# Altium footprint library pcbComponent.PCBLIB: 67 footprints (part 2 of 5)
Each footprint in its own frame and in the unit in brackets; x right, y up, seen from the top. Pads: shape width x height; smd on the part's side, far side on the other; paste and mask are expansions set on the pad; w line width, h text height; cw(c..) or ccw(c..) is an arc to the next point about the centre after c.
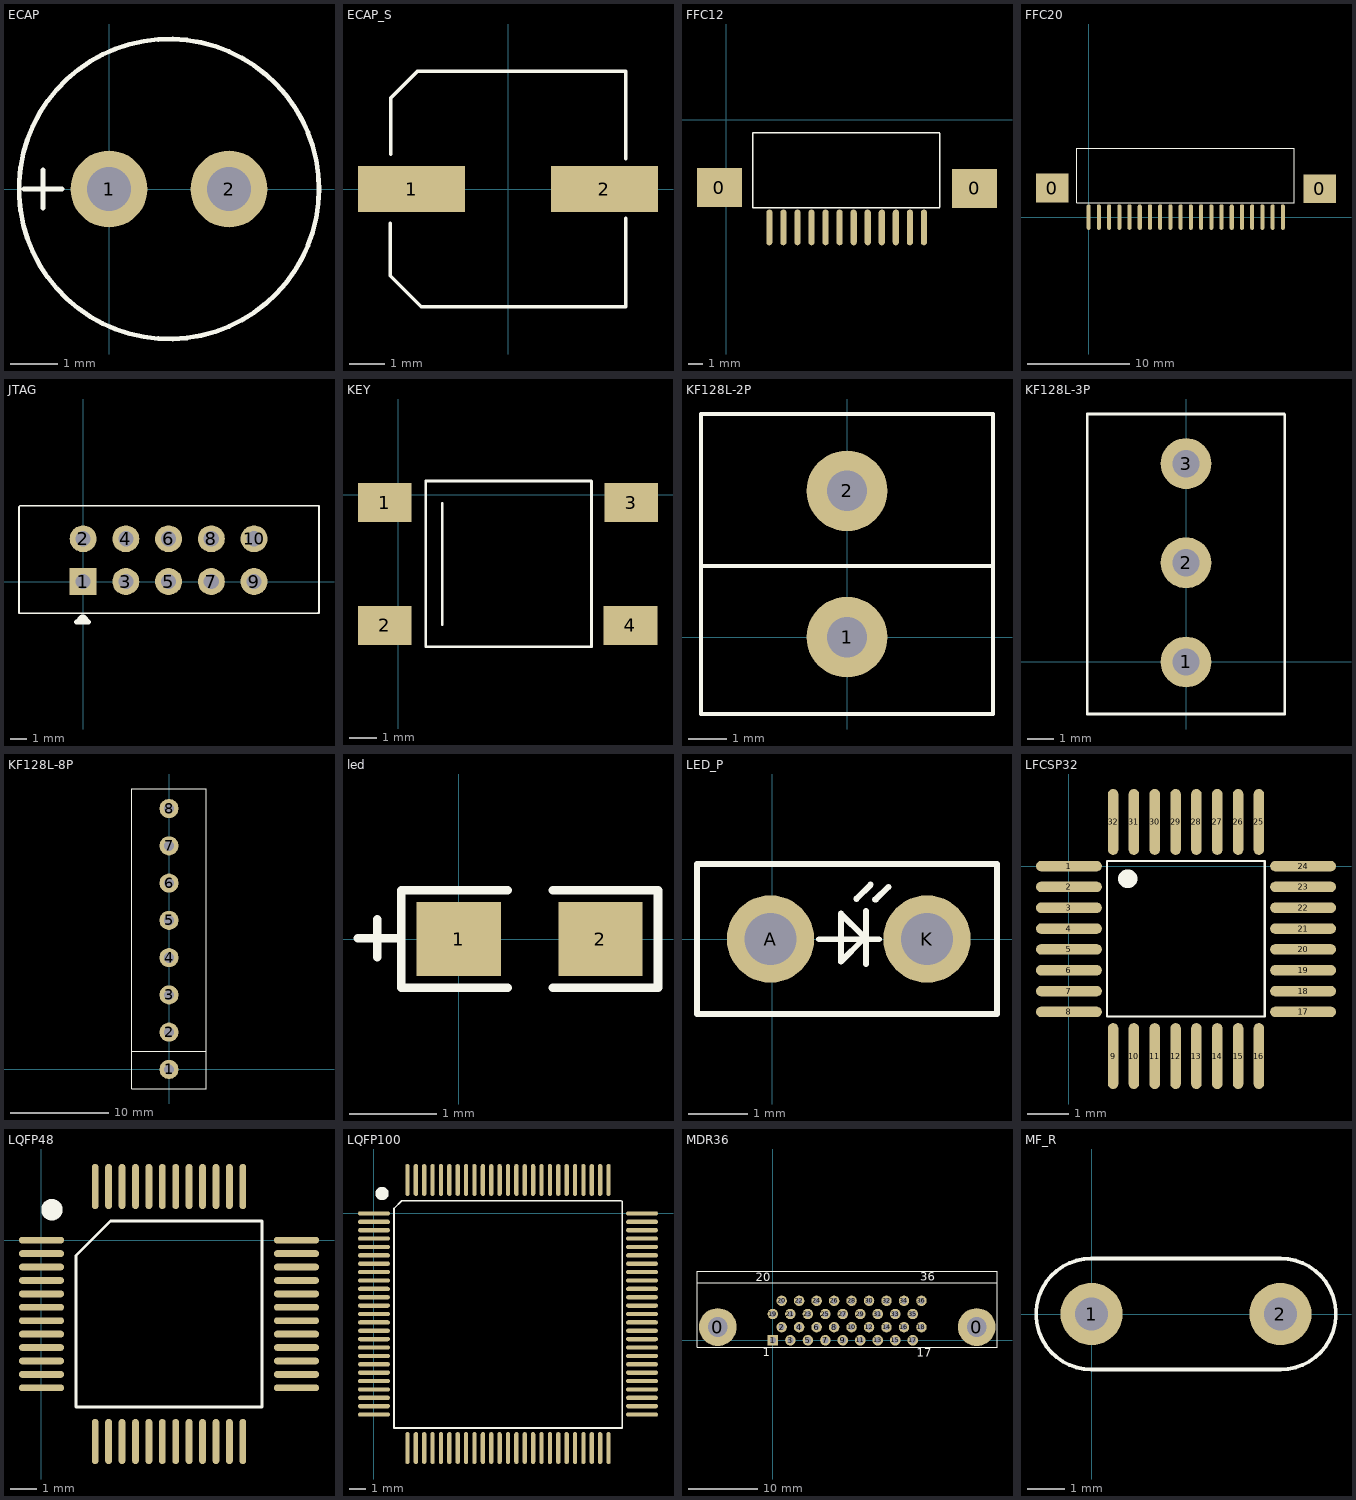
[diagram p1: the footprints below, top view; thin cyan lines are the x and y axes]

## ECAP [mil]
pads (2):
  round 64 hole 36.4: 1(0,0) 2(100,0)
TopOverlay:
  circle w3.94: c50,0 r125
  lines w3.94: -71,0 -39,0 ; -55,-16 -55,16

## ECAP_S [mm]
pads (2):
  rect 3x1.3 smd: 1(-2.7,0) 2(2.7,0)
TopOverlay:
  lines w0.102: -3.3,-0.955 -3.3,-2.4 -3.3,-2.43 -2.43,-3.3 3.3,-3.3 3.3,-0.82 ; -3.285,0.98 -3.285,2.29 -3.285,2.365 -3.285,2.55 -2.535,3.3 -2.43,3.3 3.3,3.3 3.3,0.845 ; -2.295,3.3 -2.025,3.3

## FFC12 [mm]
pads (14):
  rect 3.2x2.8 smd: 0(-0.475,-4.835) 0(17.675,-4.9)
  oval 0.44x2.54 smd: 1(3.075,-7.675) 2(4.075,-7.675) 3(5.075,-7.675) 4(6.075,-7.675) 5(7.075,-7.675) 6(8.075,-7.675) 7(9.075,-7.675) 8(10.075,-7.675) 9(11.075,-7.675) 10(12.075,-7.675) 11(13.075,-7.675) 12(14.075,-7.675)
TopOverlay:
  lines w0.1: 15.2,-6.285 1.907,-6.285 1.907,-0.935 15.2,-0.935 ; 15.2,-6.255 15.2,-0.956

## FFC20 [mm]
pads (22):
  rect 3.2x2.8 smd: 0(-3.55,2.84) 0(22.6,2.775)
  oval 0.4x2.5 smd: 1(0,0) 2(1,0) 3(2,0) 4(3,0) 5(4,0) 6(5,0) 7(6,0) 8(7,0) 9(8,0) 10(9,0) 11(10,0) 12(11,0) 13(12,0) 14(13,0) 15(14,0) 16(15,0) 17(16,0) 18(17,0) 19(18,0) 20(19,0)
TopOverlay:
  lines w0.1: 8.797,1.39 20.106,1.39 ; 10.141,1.39 -1.168,1.39 -1.168,6.74 20.09,6.74 ; 20.125,1.42 20.125,6.719

## JTAG [mm]
pads (10):
  rect 1.6x1.6 hole 0.9: 1(0,0)
  round 1.6 hole 0.9: 2(0,2.54) 3(2.54,0) 4(2.54,2.54) 5(5.08,0) 6(5.08,2.54) 7(7.62,0) 8(7.62,2.54) 9(10.16,0) 10(10.16,2.54)
TopOverlay:
  lines w0.1: -3.81,4.445 -3.81,2.819 -3.81,0.051 -3.81,-1.88 14.021,-1.88 ; -3.759,4.496 13.894,4.496 14.021,4.496 14.021,4.369 14.021,1.676 14.021,0 14.021,-1.88 ; -0.076,-2.108 0.025,-2.108 ; 13.97,-1.829 14.021,-1.88
  lines w0.3: -0.076,-2.108 -0.381,-2.413 0.33,-2.413 0.025,-2.108

## KEY [mm]
pads (4):
  rect 1.94x1.4 smd: 1(-0.483,-0.279) 2(-0.483,-4.724) 3(8.433,-0.279) 4(8.407,-4.724)
TopOverlay:
  lines w0.1: 1.6,-4.7 1.6,-0.3 ; 0.996,-5.5 0.996,0.5 6.996,0.5 6.996,-5.5 0.996,-5.5

## KF128L-2P [mm]
pads (2):
  round 2.1 hole 1.05: 1(0,0) 2(0,3.81)
TopOverlay:
  lines w0.102: -3.8,1.855 3.75,1.855 ; -3.8,-2 3.8,-2 3.8,5.81 -3.8,5.81 -3.8,-2

## KF128L-3P [mm]
pads (3):
  round 1.95 hole 1.05: 1(0,0) 2(0,3.81) 3(0,7.62)
TopOverlay:
  lines w0.1: -3.8,-2 -3.8,9.525 3.775,9.525 ; 3.8,-2 3.8,9.5
  lines w0.102: -3.8,-2 3.8,-2

## KF128L-8P [mm]
pads (8):
  round 1.95 hole 1.05: 1(0,0) 2(0,3.81) 3(0,7.62) 4(0,11.43) 5(0,15.24) 6(0,19.05) 7(0,22.86) 8(0,26.67)
TopOverlay:
  lines w0.102: -3.8,1.855 3.75,1.855 ; -3.8,-2 -3.8,28.67 3.8,28.67 3.8,-2 -3.8,-2

## led [mm]
pads (2):
  rect 0.965x0.85 smd: 1(0,0) 2(1.626,0)
TopOverlay:
  lines w0.1: -1.155,0.01 -0.66,0.01 ; -0.935,-0.21 -0.935,0.225 ; 0.559,-0.559 -0.66,-0.559 -0.66,0.559 0.559,0.559 ; 1.082,-0.559 2.286,-0.559 2.286,0.559 1.082,0.559

## LED_P [mm]
pads (2):
  round 1.48 hole 0.88: A(-0.025,0) K(2.625,0)
TopOverlay:
  lines w0.1: 0.794,-0.005 1.81,-0.005 ; 1.165,-0.385 1.165,0.415 ; -1.27,-1.27 0,-1.27 2.54,-1.27 3.81,-1.27 3.81,1.27 2.54,1.27 0,1.27 -1.27,1.27 -1.27,-1.27
  lines w0.102: 1.165,-0.385 1.55,0 ; 1.165,0.43 1.55,0.045 ; 1.435,0.675 1.435,0.685 1.67,0.92 ; 1.59,-0.425 1.59,0.47 ; 1.74,0.67 1.76,0.67 1.97,0.88

## LFCSP32 [mm]
pads (32):
  oval 1.58x0.254 smd: 1(0,0) 2(0,-0.5) 3(0,-1) 4(0,-1.5) 5(0,-2) 6(0,-2.5) 7(0,-3) 8(0,-3.5) 17(5.62,-3.5) 18(5.62,-3) 19(5.62,-2.5) 20(5.62,-2) 21(5.62,-1.5) 22(5.62,-1) 23(5.62,-0.5) 24(5.62,0)
  oval 0.254x1.58 smd: 9(1.06,-4.56) 10(1.56,-4.56) 11(2.06,-4.56) 12(2.56,-4.56) 13(3.06,-4.56) 14(3.56,-4.56) 15(4.06,-4.56) 16(4.56,-4.56) 25(4.56,1.06) 26(4.06,1.06) 27(3.56,1.06) 28(3.06,1.06) 29(2.56,1.06) 30(2.06,1.06) 31(1.56,1.06) 32(1.06,1.06)
TopOverlay:
  lines w0.05: 0.914,-3.607 4.699,-3.607 4.699,0.127 0.914,0.127 0.914,-3.607
  lines w0.44: 1.4,-0.3 1.425,-0.3

## LQFP48 [mil]
pads (48):
  oval 66x10 smd: 1(0,0) 2(0,-19.68) 3(0,-39.37) 4(0,-59.05) 5(0,-78.74) 6(0,-98.42) 7(0,-118.11) 8(0,-137.79) 9(0,-157.48) 10(0,-177.16) 11(0,-196.85) 12(0,-216.53) 25(374.01,-216.53) 26(374.01,-196.85) 27(374.01,-177.16) 28(374.01,-157.48) 29(374.01,-137.79) 30(374.01,-118.11) 31(374.01,-98.42) 32(374.01,-78.74) 33(374.01,-59.05) 34(374.01,-39.37) 35(374.01,-19.68) 36(374.01,0)
  oval 10x66 smd: 13(78.74,-295.27) 14(98.42,-295.27) 15(118.11,-295.27) 16(137.79,-295.27) 17(157.48,-295.27) 18(177.16,-295.27) 19(196.85,-295.27) 20(216.53,-295.27) 21(236.22,-295.27) 22(255.91,-295.27) 23(275.59,-295.27) 24(295.27,-295.27) 37(295.27,78.74) 38(275.59,78.74) 39(255.91,78.74) 40(236.22,78.74) 41(216.53,78.74) 42(196.85,78.74) 43(177.16,78.74) 44(157.48,78.74) 45(137.79,78.74) 46(118.11,78.74) 47(98.42,78.74) 48(78.74,78.74)
TopOverlay:
  circle w15.75: c15.35,44.69 r7.87
  lines w4: 50.59,-244.69 50.59,-22.44 101.18,28.15 323.43,28.15 323.43,-244.69 50.59,-244.69

## LQFP100 [mil]
pads (100):
  oval 75x10 smd: 1(0,0) 2(0,-19.68) 3(0,-39.37) 4(0,-59.05) 5(0,-78.74) 6(0,-98.42) 7(0,-118.11) 8(0,-137.79) 9(0,-157.48) 10(0,-177.16) 11(0,-196.85) 12(0,-216.53) 13(0,-236.22) 14(0,-255.91) 15(0,-275.59) 16(0,-295.27) 17(0,-314.96) 18(0,-334.64) 19(0,-354.33) 20(0,-374.01) 21(0,-393.7) 22(0,-413.38) 23(0,-433.07) 24(0,-452.76) 25(0,-472.44) 51(629.92,-472.44) 52(629.92,-452.76) 53(629.92,-433.07) 54(629.92,-413.38) 55(629.92,-393.7) 56(629.92,-374.01) 57(629.92,-354.33) 58(629.92,-334.64) 59(629.92,-314.96) 60(629.92,-295.27) 61(629.92,-275.59) 62(629.92,-255.91) 63(629.92,-236.22) 64(629.92,-216.53) 65(629.92,-196.85) 66(629.92,-177.16) 67(629.92,-157.48) 68(629.92,-137.79) 69(629.92,-118.11) 70(629.92,-98.42) 71(629.92,-78.74) 72(629.92,-59.05) 73(629.92,-39.37) 74(629.92,-19.68) 75(629.92,0)
  oval 10x75 smd: 26(78.74,-551.18) 27(98.42,-551.18) 28(118.11,-551.18) 29(137.79,-551.18) 30(157.48,-551.18) 31(177.16,-551.18) 32(196.85,-551.18) 33(216.53,-551.18) 34(236.22,-551.18) 35(255.91,-551.18) 36(275.59,-551.18) 37(295.27,-551.18) 38(314.96,-551.18) 39(334.64,-551.18) 40(354.33,-551.18) 41(374.01,-551.18) 42(393.7,-551.18) 43(413.38,-551.18) 44(433.07,-551.18) 45(452.75,-551.18) 46(472.44,-551.18) 47(492.12,-551.18) 48(511.81,-551.18) 49(531.5,-551.18) 50(551.18,-551.18) 76(551.18,78.74) 77(531.5,78.74) 78(511.81,78.74) 79(492.12,78.74) 80(472.44,78.74) 81(452.75,78.74) 82(433.07,78.74) 83(413.38,78.74) 84(393.7,78.74) 85(374.01,78.74) 86(354.33,78.74) 87(334.64,78.74) 88(314.96,78.74) 89(295.27,78.74) 90(275.59,78.74) 91(255.91,78.74) 92(236.22,78.74) 93(216.53,78.74) 94(196.85,78.74) 95(177.16,78.74) 96(157.48,78.74) 97(137.79,78.74) 98(118.11,78.74) 99(98.42,78.74) 100(78.74,78.74)
TopOverlay:
  circle w15.75: c18.9,46.85 r7.87
  lines w4: 47.24,-504.13 47.24,11.61 47.24,11.81 65.55,30.12 581.3,30.12 ; 47.24,-503.94 582.68,-503.94 ; 583.07,-503.35 583.07,12.4 583.07,28.35

## MDR36 [mm]
pads (38):
  round 5.5 hole 2.88: 0(-8.001,1.905) 0(29.616,1.905)
  rect 1.52x1.52 hole 0.88: 1(0,0)
  round 1.52 hole 0.88: 2(1.27,1.905) 3(2.54,0) 4(3.81,1.905) 5(5.08,0) 6(6.35,1.905) 7(7.62,0) 8(8.89,1.905) 9(10.16,0) 10(11.43,1.905) 11(12.7,0) 12(13.97,1.905) 13(15.24,0) 14(16.51,1.905) 15(17.78,0) 16(19.05,1.905) 17(20.32,0) 18(21.59,1.905) 19(0,3.81) 20(1.27,5.715) 21(2.54,3.81) 22(3.81,5.715) 23(5.08,3.81) 24(6.35,5.715) 25(7.62,3.81) 26(8.89,5.715) 27(10.16,3.81) 28(11.43,5.715) 29(12.7,3.81) 30(13.97,5.715) 31(15.24,3.81) 32(16.51,5.715) 33(17.78,3.81) 34(19.05,5.715) 35(20.32,3.81) 36(21.59,5.715)
TopOverlay:
  lines w0.1: -11.024,8.331 32.461,8.331 ; -11.024,-1.016 32.563,-1.016 32.563,10.008 -11.024,10.008 -11.024,6.858 -11.024,2.032 -11.024,-1.016
  text "1" at -1.473,-2.337 h1.2
  text "17" at 20.93,-2.388 h1.2
  text "20" at -2.489,8.585 h1.2
  text "36" at 21.438,8.636 h1.2

## MF_R [mm]
pads (2):
  round 1.68 hole 0.886: 1(0,0) 2(5.1,0)
TopOverlay:
  lines w0.1: 0,-1.5 cw(c0,0) 0,1.5 5.1,1.5 cw(c5.1,0) 5.1,-1.5 0,-1.5